# Altium schematic symbol library SCH - AMP AUDIO - ANALOG SSM2019BRW.SchLib: 1 symbol
Pins are listed as number, name and electrical type; pins without a type are passive.

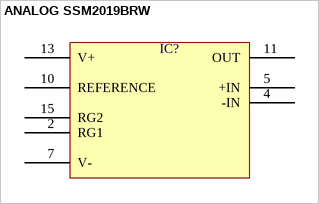
[diagram p0: symbol ANALOG SSM2019BRW]

## ANALOG SSM2019BRW
designator IC?  (value not drawn)
pins: 2 RG1, 4 -IN, 5 +IN, 7 V-, 10 REFERENCE, 11 OUT, 13 V+, 15 RG2